# Altium integrated library FT231XS-R.IntLib: 1 symbol
Pins are listed as number, name and electrical type; pins without a type are passive.

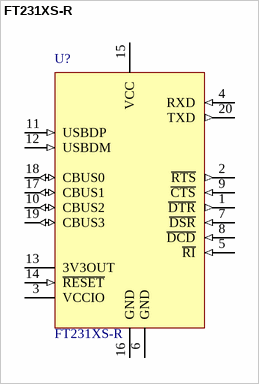
[diagram p0: symbol FT231XS-R]

## FT231XS-R
designator U?
USB Full Speed to Full Handshake UART with USB Charger Detection; MF: FTDI,; SnapEDA_Link: https://www.snapeda.com/parts/FT231XS-R/FTDI%2C%20Future%20Technology%20Devices%20International%20Ltd/view-part/?ref=snap; Digi-Key_Part_Number: 768-1129-1-ND; MP: FT231XS-R; Digi-Key_Purchase_URL: https://www.digikey.com/product-detail/en/ftdi-future-technology-devices-international-ltd/FT231XS-R/768-1129-1-ND/3029151?utm_source=snapeda&utm_medium=aggregator&utm_campaign=symbol; Package: SSOP-20 FTDI; Value: *
footprint *SOP63P599X175-20N
pins: 1 ~{DTR} (out), 2 ~{RTS} (out), 3 VCCIO (power), 4 RXD (in), 5 ~{RI} (in), 6 GND (power), 7 ~{DSR} (in), 8 ~{DCD} (in), 9 ~{CTS} (in), 10 CBUS2 (io), 11 USBDP (in), 12 USBDM (in), 13 3V3OUT (power), 14 ~{RESET} (in), 15 VCC (power), 16 GND (power), 17 CBUS1 (io), 18 CBUS0 (io), 19 CBUS3 (io), 20 TXD (out)